# EAGLE library part 74573LATCH (library ZMPLC)
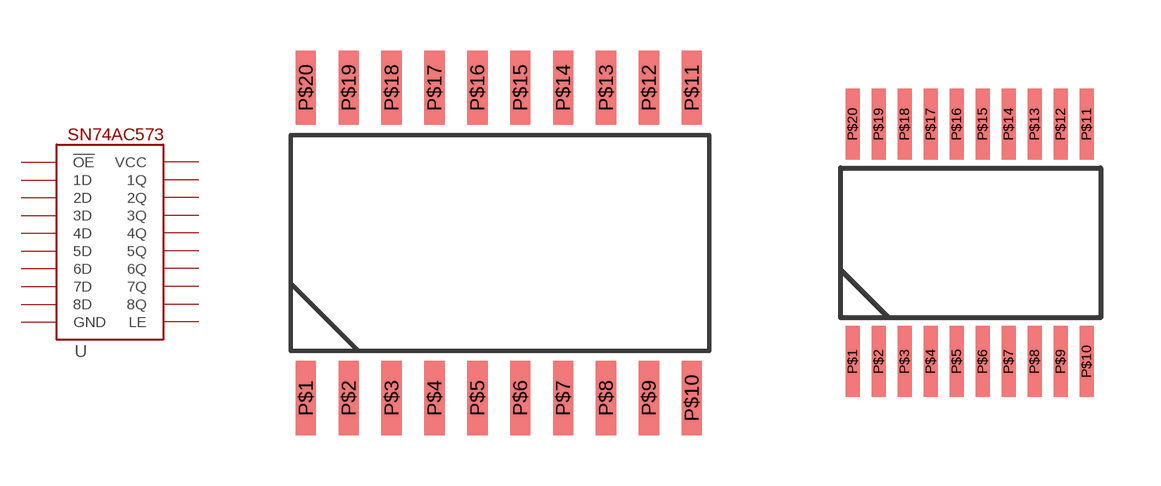
[diagram p4: symbol with the pads of SOIC20_DW; footprints SOIC20_DW, TSSOP20]

Designator prefix -

## 74573LATCHSOIC  [SOIC20_DW]
P$1  !OE
P$2  1D
P$3  2D
P$4  3D
P$5  4D
P$6  5D
P$7  6D
P$8  7D
P$9  8D
P$10  GND  pwr
P$11  LE
P$12  8Q
P$13  7Q
P$14  6Q
P$15  5Q
P$16  4Q
P$17  3Q
P$18  2Q
P$19  1Q
P$20  VCC  pwr

## 74573LATCHTSSOP  [TSSOP20]
Pads as for SOIC20_DW

## Footprint SOIC20_DW (pad centres in mm)
smd 0.6 x 2.2: P$1 -6.35,-9.2; P$2 -5.08,-9.2; P$3 -3.81,-9.2; P$4 -2.54,-9.2; P$5 -1.27,-9.2; P$6 0,-9.2; P$7 1.27,-9.2; P$8 2.54,-9.2; P$9 3.81,-9.2; P$10 5.08,-9.2; P$11 5.08,0; P$12 3.81,0; P$13 2.54,0; P$14 1.27,0; P$15 0,0; P$16 -1.27,0; P$17 -2.54,0; P$18 -3.81,0; P$19 -5.08,0; P$20 -6.35,0

## Footprint TSSOP20 (pad centres in mm)
smd 0.35 x 1.78: P$1 0,-5.94; P$2 0.65,-5.94; P$3 1.3,-5.94; P$4 1.95,-5.94; P$5 2.6,-5.94; P$6 3.25,-5.94; P$7 3.9,-5.94; P$8 4.55,-5.94; P$9 5.2,-5.94; P$10 5.85,-5.94; P$11 5.85,0; P$12 5.2,0; P$13 4.55,0; P$14 3.9,0; P$15 3.25,0; P$16 2.6,0; P$17 1.95,0; P$18 1.3,0; P$19 0.65,0; P$20 0,0